# Altium footprint library QFP50P1600X1600X160-100N.PcbLib: 1 footprints
Each footprint in its own frame and in the unit in brackets; x right, y up, seen from the top. Pads: shape width x height; smd on the part's side, far side on the other; paste and mask are expansions set on the pad; w line width, h text height; cw(c..) or ccw(c..) is an arc to the next point about the centre after c.
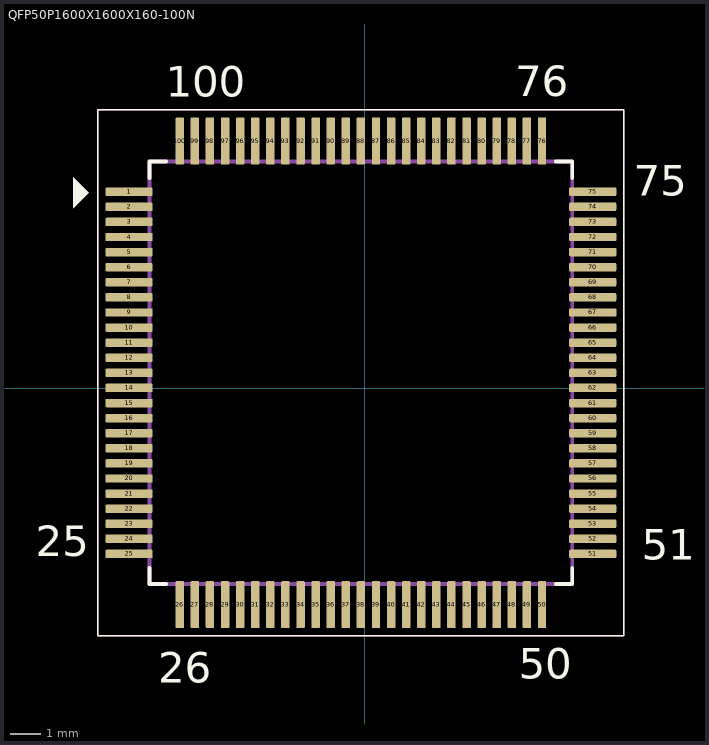
[diagram p0: the footprint, top view; thin cyan lines are the x and y axes]

## QFP50P1600X1600X160-100N [mm]
height 1.6
pads (100):
  rrect25% 1.56x0.28 smd: 1(-7.807,6.508) 2(-7.807,6.008) 3(-7.807,5.508) 4(-7.807,5.008) 5(-7.807,4.508) 6(-7.807,4.008) 7(-7.807,3.508) 8(-7.807,3.008) 9(-7.807,2.508) 10(-7.807,2.008) 11(-7.807,1.508) 12(-7.807,1.008) 13(-7.807,0.508) 14(-7.807,0.008) 15(-7.807,-0.492) 16(-7.807,-0.992) 17(-7.807,-1.492) 18(-7.807,-1.992) 19(-7.807,-2.492) 20(-7.807,-2.992) 21(-7.807,-3.492) 22(-7.807,-3.992) 23(-7.807,-4.492) 24(-7.807,-4.992) 25(-7.807,-5.492) 51(7.553,-5.492) 52(7.553,-4.992) 53(7.553,-4.492) 54(7.553,-3.992) 55(7.553,-3.492) 56(7.553,-2.992) 57(7.553,-2.492) 58(7.553,-1.992) 59(7.553,-1.492) 60(7.553,-0.992) 61(7.553,-0.492) 62(7.553,0.008) 63(7.553,0.508) 64(7.553,1.008) 65(7.553,1.508) 66(7.553,2.008) 67(7.553,2.508) 68(7.553,3.008) 69(7.553,3.508) 70(7.553,4.008) 71(7.553,4.508) 72(7.553,5.008) 73(7.553,5.508) 74(7.553,6.008) 75(7.553,6.508)
  rrect25% 0.28x1.56 smd: 26(-6.127,-7.172) 27(-5.627,-7.172) 28(-5.127,-7.172) 29(-4.627,-7.172) 30(-4.127,-7.172) 31(-3.627,-7.172) 32(-3.127,-7.172) 33(-2.627,-7.172) 34(-2.127,-7.172) 35(-1.627,-7.172) 36(-1.127,-7.172) 37(-0.627,-7.172) 38(-0.127,-7.172) 39(0.373,-7.172) 40(0.873,-7.172) 41(1.373,-7.172) 42(1.873,-7.172) 43(2.373,-7.172) 44(2.873,-7.172) 45(3.373,-7.172) 46(3.873,-7.172) 47(4.373,-7.172) 48(4.873,-7.172) 49(5.373,-7.172) 50(5.873,-7.172) 76(5.873,8.188) 77(5.373,8.188) 78(4.873,8.188) 79(4.373,8.188) 80(3.873,8.188) 81(3.373,8.188) 82(2.873,8.188) 83(2.373,8.188) 84(1.873,8.188) 85(1.373,8.188) 86(0.873,8.188) 87(0.373,8.188) 88(-0.127,8.188) 89(-0.627,8.188) 90(-1.127,8.188) 91(-1.627,8.188) 92(-2.127,8.188) 93(-2.627,8.188) 94(-3.127,8.188) 95(-3.627,8.188) 96(-4.127,8.188) 97(-4.627,8.188) 98(-5.127,8.188) 99(-5.627,8.188) 100(-6.127,8.188)
Top Overlay:
  region: -9.652,6.985 -9.652,5.969 -9.144,6.477
  lines w0.05: -8.837,-8.202 -8.837,9.218 8.583,9.218 8.583,-8.202 -8.837,-8.202
  lines w0.127: -7.127,-5.952 -7.127,-6.492 -6.587,-6.492 ; -7.127,6.968 -7.127,7.508 -6.587,7.508 ; 6.333,-6.492 6.873,-6.492 6.873,-5.952 ; 6.333,7.508 6.873,7.508 6.873,6.968
  text "100" at -6.59,9.65 h1.02
  text "76" at 4.978,9.677 h1.02
  text "75" at 8.915,6.375 h1.02
  text "51" at 9.169,-5.69 h1.02
  text "50" at 5.105,-9.627 h1.02
  text "26" at -6.833,-9.754 h1.02
  text "25" at -10.897,-5.563 h1.02
Mechanical 13:
  lines w0.127: -7.127,-6.492 -7.127,7.508 6.873,7.508 6.873,-6.492 -7.127,-6.492
Mechanical 15:
  lines w0.05: -8.839,-8.2 -8.839,9.22 8.581,9.22 8.581,-8.2 -8.839,-8.2
3D body "step_temp.STEP": height 1.6, standoff 0, extent -8.127,-7.492 7.873,8.508